# Altium schematic symbol library ADC_T12.SchLib: 1 symbol
Pins are listed as number, name and electrical type; pins without a type are passive.

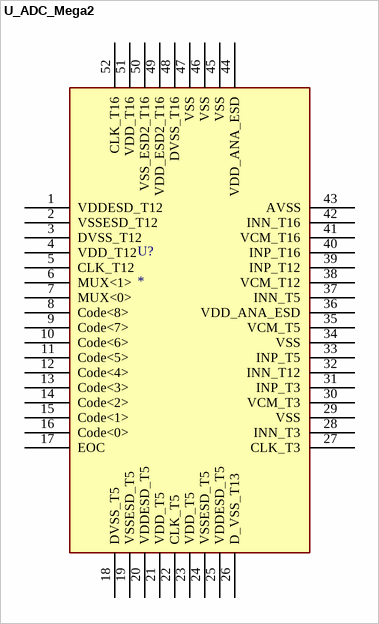
[diagram p0: symbol U_ADC_Mega2]

## U_ADC_Mega2
designator U?
MegaGroup2
pins: 1 VDDESD_T12, 2 VSSESD_T12, 3 DVSS_T12, 4 VDD_T12, 5 CLK_T12, 6 MUX<1>, 7 MUX<0>, 8 Code<8>, 9 Code<7>, 10 Code<6>, 11 Code<5>, 12 Code<4>, 13 Code<3>, 14 Code<2>, 15 Code<1>, 16 Code<0>, 17 EOC, 18 DVSS_T5, 19 VSSESD_T5, 20 VDDESD_T5, 21 VDD_T5, 22 CLK_T5, 23 VDD_T5, 24 VSSESD_T5, 25 VDDESD_T5, 26 D_VSS_T13, 27 CLK_T3, 28 INN_T3, 29 VSS, 30 VCM_T3, 31 INP_T3, 32 INN_T12, 33 INP_T5, 34 VSS, 35 VCM_T5, 36 VDD_ANA_ESD, 37 INN_T5, 38 VCM_T12, 39 INP_T12, 40 INP_T16, 41 VCM_T16, 42 INN_T16, 43 AVSS, 44 VDD_ANA_ESD, 45 VSS, 46 VSS, 47 VSS, 48 DVSS_T16, 49 VDD_ESD2_T16, 50 VSS_ESD2_T16, 51 VDD_T16, 52 CLK_T16